# EAGLE library part P-08278_SO1602AWYB-UC-WB-U (library Akizuki)
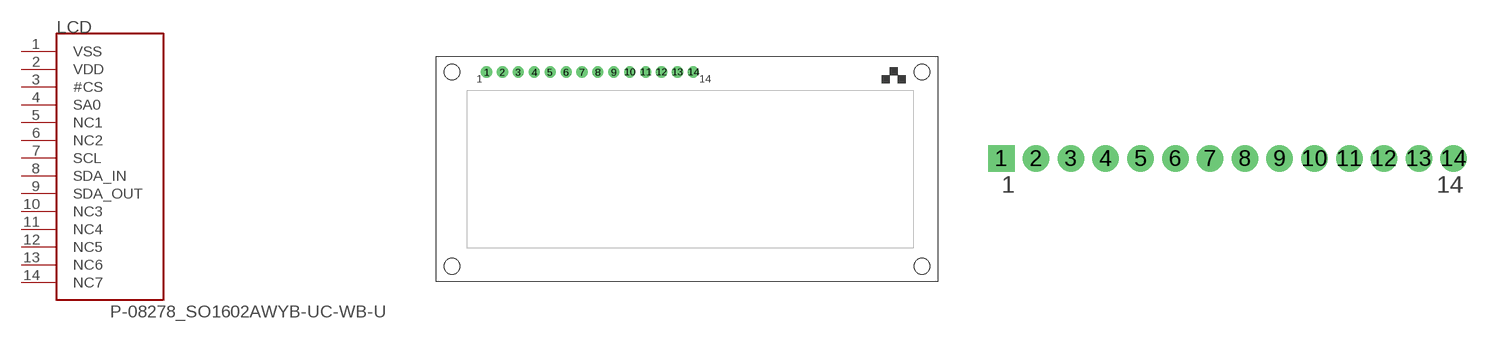
[diagram p29: symbol with the pads of SO1602AWYB-UC-WB-U; footprints SO1602AWYB-UC-WB-U, SO1602AWYB-UC-WB-U-PIN]

Designator prefix LCD

## P-08278_SO1602AWYB-UC-WB-U  [SO1602AWYB-UC-WB-U]
1  VSS
2  VDD
3  #CS
4  SA0
5  NC1
6  NC2
7  SCL
8  SDA_IN
9  SDA_OUT
10  NC3
11  NC4
12  NC5
13  NC6
14  NC7

## P-08278_SO1602AWYB-UC-WB-UPIN  [SO1602AWYB-UC-WB-U-PIN]
Pads as for SO1602AWYB-UC-WB-U

## Footprint SO1602AWYB-UC-WB-U (pad centres in mm)
drill 1 pad 1.778: 1 8,33.5; 2 10.54,33.5; 3 13.08,33.5; 4 15.62,33.5; 5 18.16,33.5; 6 20.7,33.5; 7 23.24,33.5; 8 25.78,33.5; 9 28.32,33.5; 10 30.86,33.5; 11 33.4,33.5; 12 35.94,33.5; 13 38.48,33.5; 14 41.02,33.5
hole 2.5 at 2.5,2.5
hole 2.5 at 2.5,33.5
hole 2.5 at 77.5,33.5
hole 2.5 at 77.5,2.5

## Footprint SO1602AWYB-UC-WB-U-PIN (pad centres in mm)
drill 0.9 pad 1.93 square: 1 0,0
drill 0.9 pad 1.93: 2 2.54,0; 3 5.08,0; 4 7.62,0; 5 10.16,0; 6 12.7,0; 7 15.24,0; 8 17.78,0; 9 20.32,0; 10 22.86,0; 11 25.4,0; 12 27.94,0; 13 30.48,0; 14 33.02,0